# EAGLE library part AD9122 (library NewSDR)
Analog Devices 1230 Msps TxDAC Digital to Analog Converter
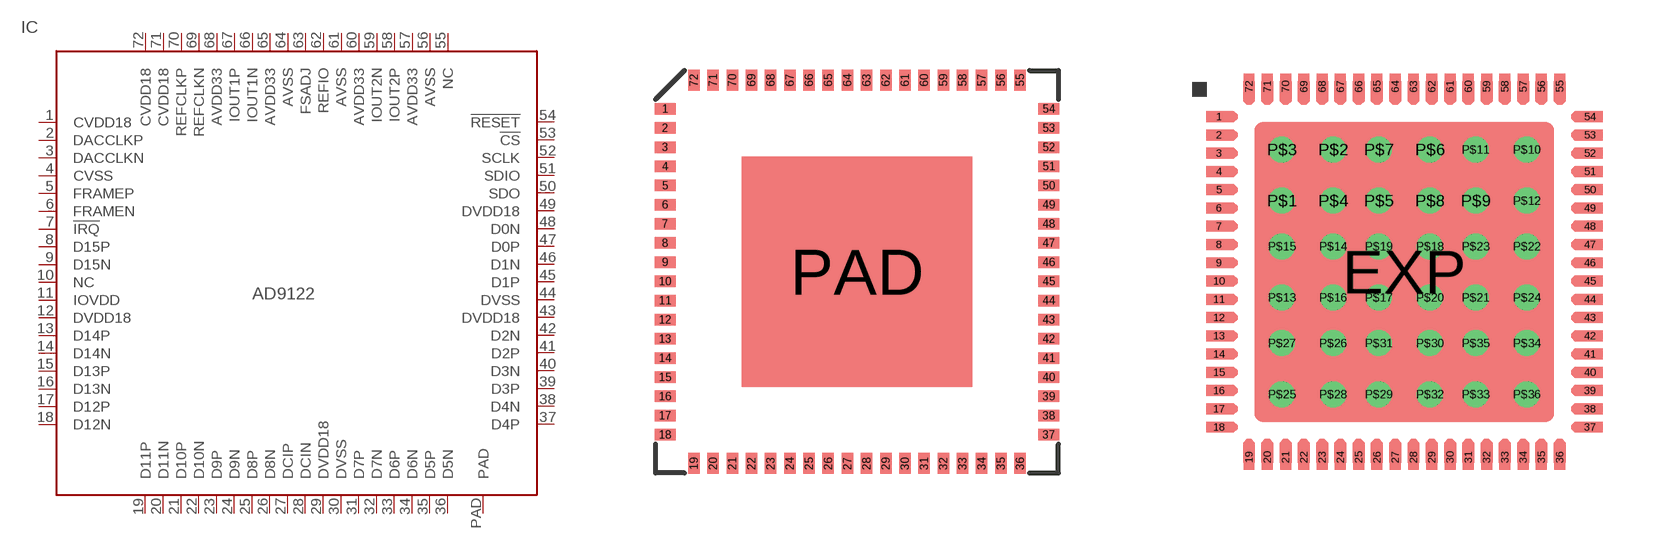
[diagram p150: symbol with the pads of LFCSP72; footprints LFCSP72, LFCSP72A]

Designator prefix IC

## AD9122  [LFCSP72]
1  CVDD18  pwr
2  DACCLKP  in
3  DACCLKN  in
4  CVSS  pwr
5  FRAMEP  in
6  FRAMEN  in
7  !IRQ  out
8  D15P  in
9  D15N  in
10  NC  nc
11  IOVDD  pwr
12  DVDD18  pwr
13  D14P  in
14  D14N  in
15  D13P  in
16  D13N  in
17  D12P  in
18  D12N  in
19  D11P  in
20  D11N  in
21  D10P  in
22  D10N  in
23  D9P  in
24  D9N  in
25  D8P  in
26  D8N  in
27  DCIP  in
28  DCIN  in
29  DVDD18  pwr
30  DVSS  pwr
31  D7P  in
32  D7N  in
33  D6P  in
34  D6N  in
35  D5P  in
36  D5N  in
37  D4P  in
38  D4N  in
39  D3P  in
40  D3N  in
41  D2P  in
42  D2N  in
43  DVDD18  pwr
44  DVSS  pwr
45  D1P  in
46  D1N  in
47  D0P  in
48  D0N  in
49  DVDD18  pwr
50  SDO  out
51  SDIO
52  SCLK  in
53  !CS  in
54  !RESET  in
55  NC  nc
56  AVSS  pwr
57  AVDD33  pwr
58  IOUT2P  out
59  IOUT2N  out
60  AVDD33  pwr
61  AVSS  pwr
62  REFIO  pwr
63  FSADJ  pas
64  AVSS  pwr
65  AVDD33  pwr
66  IOUT1N  out
67  IOUT1P  out
68  AVDD33  pwr
69  REFCLKN  in
70  REFCLKP  in
71  CVDD18  pwr
72  CVDD18  pwr
PAD  PAD  pwr

## AD9122-  [LFCSP72A]
1  CVDD18  pwr
2  DACCLKP  in
3  DACCLKN  in
4  CVSS  pwr
5  FRAMEP  in
6  FRAMEN  in
7  !IRQ  out
8  D15P  in
9  D15N  in
10  NC  nc
11  IOVDD  pwr
12  DVDD18  pwr
13  D14P  in
14  D14N  in
15  D13P  in
16  D13N  in
17  D12P  in
18  D12N  in
19  D11P  in
20  D11N  in
21  D10P  in
22  D10N  in
23  D9P  in
24  D9N  in
25  D8P  in
26  D8N  in
27  DCIP  in
28  DCIN  in
29  DVDD18  pwr
30  DVSS  pwr
31  D7P  in
32  D7N  in
33  D6P  in
34  D6N  in
35  D5P  in
36  D5N  in
37  D4P  in
38  D4N  in
39  D3P  in
40  D3N  in
41  D2P  in
42  D2N  in
43  DVDD18  pwr
44  DVSS  pwr
45  D1P  in
46  D1N  in
47  D0P  in
48  D0N  in
49  DVDD18  pwr
50  SDO  out
51  SDIO
52  SCLK  in
53  !CS  in
54  !RESET  in
55  NC  nc
56  AVSS  pwr
57  AVDD33  pwr
58  IOUT2P  out
59  IOUT2N  out
60  AVDD33  pwr
61  AVSS  pwr
62  REFIO  pwr
63  FSADJ  pas
64  AVSS  pwr
65  AVDD33  pwr
66  IOUT1N  out
67  IOUT1P  out
68  AVDD33  pwr
69  REFCLKN  in
70  REFCLKP  in
71  CVDD18  pwr
72  CVDD18  pwr
EXP  PAD  pwr
P$1  PAD  pwr
P$2  PAD  pwr
P$3  PAD  pwr
P$4  PAD  pwr
P$5  PAD  pwr
P$6  PAD  pwr
P$7  PAD  pwr
P$8  PAD  pwr
P$9  PAD  pwr
P$10  PAD  pwr
P$11  PAD  pwr
P$12  PAD  pwr
P$13  PAD  pwr
P$14  PAD  pwr
P$15  PAD  pwr
P$16  PAD  pwr
P$17  PAD  pwr
P$18  PAD  pwr
P$19  PAD  pwr
P$20  PAD  pwr
P$21  PAD  pwr
P$22  PAD  pwr
P$23  PAD  pwr
P$24  PAD  pwr
P$25  PAD  pwr
P$26  PAD  pwr
P$27  PAD  pwr
P$28  PAD  pwr
P$29  PAD  pwr
P$30  PAD  pwr
P$31  PAD  pwr
P$32  PAD  pwr
P$33  PAD  pwr
P$34  PAD  pwr
P$35  PAD  pwr
P$36  PAD  pwr

## Footprint LFCSP72 (pad centres in mm)
smd 0.55 x 0.3: 1 -5,4.25; 2 -5,3.75; 3 -5,3.25; 4 -5,2.75; 5 -5,2.25; 6 -5,1.75; 7 -5,1.25; 8 -5,0.75; 9 -5,0.25; 10 -5,-0.25; 11 -5,-0.75; 12 -5,-1.25; 13 -5,-1.75; 14 -5,-2.25; 15 -5,-2.75; 16 -5,-3.25; 17 -5,-3.75; 18 -5,-4.25; 37 5,-4.25; 38 5,-3.75; 39 5,-3.25; 40 5,-2.75; 41 5,-2.25; 42 5,-1.75; 43 5,-1.25; 44 5,-0.75; 45 5,-0.25; 46 5,0.25; 47 5,0.75; 48 5,1.25; 49 5,1.75; 50 5,2.25; 51 5,2.75; 52 5,3.25; 53 5,3.75; 54 5,4.25
smd 0.3 x 0.55: 19 -4.25,-5; 20 -3.75,-5; 21 -3.25,-5; 22 -2.75,-5; 23 -2.25,-5; 24 -1.75,-5; 25 -1.25,-5; 26 -0.75,-5; 27 -0.25,-5; 28 0.25,-5; 29 0.75,-5; 30 1.25,-5; 31 1.75,-5; 32 2.25,-5; 33 2.75,-5; 34 3.25,-5; 35 3.75,-5; 36 4.25,-5; 55 4.25,5; 56 3.75,5; 57 3.25,5; 58 2.75,5; 59 2.25,5; 60 1.75,5; 61 1.25,5; 62 0.75,5; 63 0.25,5; 64 -0.25,5; 65 -0.75,5; 66 -1.25,5; 67 -1.75,5; 68 -2.25,5; 69 -2.75,5; 70 -3.25,5; 71 -3.75,5; 72 -4.25,5
smd 6 x 6: PAD 0,0

## Footprint LFCSP72A (pad centres in mm)
smd 0.7 x 0.3: 1 -5.075,4.25; 2 -5.075,3.75; 3 -5.075,3.25; 4 -5.075,2.75; 5 -5.075,2.25; 6 -5.075,1.75; 7 -5.075,1.25; 8 -5.075,0.75; 9 -5.075,0.25; 10 -5.075,-0.25; 11 -5.075,-0.75; 12 -5.075,-1.25; 13 -5.075,-1.75; 14 -5.075,-2.25; 15 -5.075,-2.75; 16 -5.075,-3.25; 17 -5.075,-3.75; 18 -5.075,-4.25; 37 5.075,-4.25; 38 5.075,-3.75; 39 5.075,-3.25; 40 5.075,-2.75; 41 5.075,-2.25; 42 5.075,-1.75; 43 5.075,-1.25; 44 5.075,-0.75; 45 5.075,-0.25; 46 5.075,0.25; 47 5.075,0.75; 48 5.075,1.25; 49 5.075,1.75; 50 5.075,2.25; 51 5.075,2.75; 52 5.075,3.25; 53 5.075,3.75; 54 5.075,4.25
smd 0.3 x 0.7: 19 -4.25,-5.075; 20 -3.75,-5.075; 21 -3.25,-5.075; 22 -2.75,-5.075; 23 -2.25,-5.075; 24 -1.75,-5.075; 25 -1.25,-5.075; 26 -0.75,-5.075; 27 -0.25,-5.075; 28 0.25,-5.075; 29 0.75,-5.075; 30 1.25,-5.075; 31 1.75,-5.075; 32 2.25,-5.075; 33 2.75,-5.075; 34 3.25,-5.075; 35 3.75,-5.075; 36 4.25,-5.075; 55 4.25,5.075; 56 3.75,5.075; 57 3.25,5.075; 58 2.75,5.075; 59 2.25,5.075; 60 1.75,5.075; 61 1.25,5.075; 62 0.75,5.075; 63 0.25,5.075; 64 -0.25,5.075; 65 -0.75,5.075; 66 -1.25,5.075; 67 -1.75,5.075; 68 -2.25,5.075; 69 -2.75,5.075; 70 -3.25,5.075; 71 -3.75,5.075; 72 -4.25,5.075
smd 8.2 x 8.2: EXP 0,0
drill 0.203 pad 0.406: P$1 -3.35,1.95; P$2 -1.95,3.35; P$3 -3.35,3.35; P$4 -1.95,1.95; P$5 -0.7,1.95; P$6 0.7,3.35; P$7 -0.7,3.35; P$8 0.7,1.95; P$9 1.95,1.95; P$10 3.35,3.35; P$11 1.95,3.35; P$12 3.35,1.95; P$13 -3.35,-0.7; P$14 -1.95,0.7; P$15 -3.35,0.7; P$16 -1.95,-0.7; P$17 -0.7,-0.7; P$18 0.7,0.7; P$19 -0.7,0.7; P$20 0.7,-0.7; P$21 1.95,-0.7; P$22 3.35,0.7; P$23 1.95,0.7; P$24 3.35,-0.7; P$25 -3.35,-3.35; P$26 -1.95,-1.95; P$27 -3.35,-1.95; P$28 -1.95,-3.35; P$29 -0.7,-3.35; P$30 0.7,-1.95; P$31 -0.7,-1.95; P$32 0.7,-3.35; P$33 1.95,-3.35; P$34 3.35,-1.95; P$35 1.95,-1.95; P$36 3.35,-3.35